# Altium footprint library ADC-DAC.PcbLib: 2 footprints
Each footprint in its own frame and in the unit in brackets; x right, y up, seen from the top. Pads: shape width x height; smd on the part's side, far side on the other; paste and mask are expansions set on the pad; w line width, h text height; cw(c..) or ccw(c..) is an arc to the next point about the centre after c.
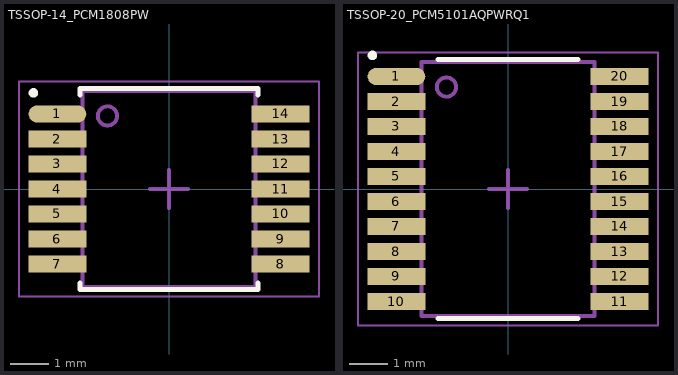
[diagram p0: the footprints below, top view; thin cyan lines are the x and y axes]

## TSSOP-14_PCM1808PW [mm] "ADC, 2 converters, sampling rate = 96kHz, I2S out, Vb = 4.5V-5.5V"
height 1.2
pads (14):
  oval 1.5x0.45 smd: 1(-2.9,1.95)
  rect 1.5x0.45 smd: 2(-2.9,1.3) 3(-2.9,0.65) 4(-2.9,0) 5(-2.9,-0.65) 6(-2.9,-1.3) 7(-2.9,-1.95) 8(2.9,-1.95) 9(2.9,-1.3) 10(2.9,-0.65) 11(2.9,0) 12(2.9,0.65) 13(2.9,1.3) 14(2.9,1.95)
Top Overlay:
  circle w0.125: c-3.525,2.5 r0.062
  lines w0.127: -2.313,-2.438 -2.313,-2.613 2.314,-2.613 2.314,-2.438 ; -2.313,2.439 -2.313,2.613 2.314,2.613 2.314,2.439
Mechanical 13:
  circle w0.1: c-1.6,1.9 r0.25
  lines w0.1: -2.25,-2.55 -2.25,2.55 2.25,2.55 2.25,-2.55 -2.25,-2.55
Mechanical 15:
  lines w0.05: -3.9,-2.8 -3.9,2.8 3.9,2.8 3.9,-2.8 -3.9,-2.8
  lines w0.1: -0.5,0 0.5,0 ; 0,-0.5 0,0.5
3D body "PCM1808PW.stp": height 1.13, standoff 0, extent -3.2,-2.5 3.2,2.5

## TSSOP-20_PCM5101AQPWRQ1 [mm] "DAC, 2-outputs, samplingrate = 384KHz, Vb = 3.3V"
height 1.2
pads (20):
  oval 1.5x0.45 smd: 1(-2.9,2.925)
  rect 1.5x0.45 smd: 2(-2.9,2.275) 3(-2.9,1.625) 4(-2.9,0.975) 5(-2.9,0.325) 6(-2.9,-0.325) 7(-2.9,-0.975) 8(-2.9,-1.625) 9(-2.9,-2.275) 10(-2.9,-2.925) 11(2.9,-2.925) 12(2.9,-2.275) 13(2.9,-1.625) 14(2.9,-0.975) 15(2.9,-0.325) 16(2.9,0.325) 17(2.9,0.975) 18(2.9,1.625) 19(2.9,2.275) 20(2.9,2.925)
Top Overlay:
  circle w0.125: c-3.525,3.475 r0.062
  lines w0.127: -1.823,-3.363 1.823,-3.363 ; -1.823,3.364 1.823,3.364
Mechanical 13:
  circle w0.1: c-1.6,2.65 r0.25
  lines w0.1: -2.25,-3.3 -2.25,3.3 2.25,3.3 2.25,-3.3 -2.25,-3.3
Mechanical 15:
  lines w0.05: -3.9,-3.55 -3.9,3.55 3.9,3.55 3.9,-3.55 -3.9,-3.55
  lines w0.1: -0.5,0 0.5,0 ; 0,-0.5 0,0.5
3D body "PCM5101AQPWRQ1.stp": height 1.13, standoff 0, extent -3.2,-3.25 3.2,3.25